# EAGLE library part STM32F091RC (library OTHERTEST)
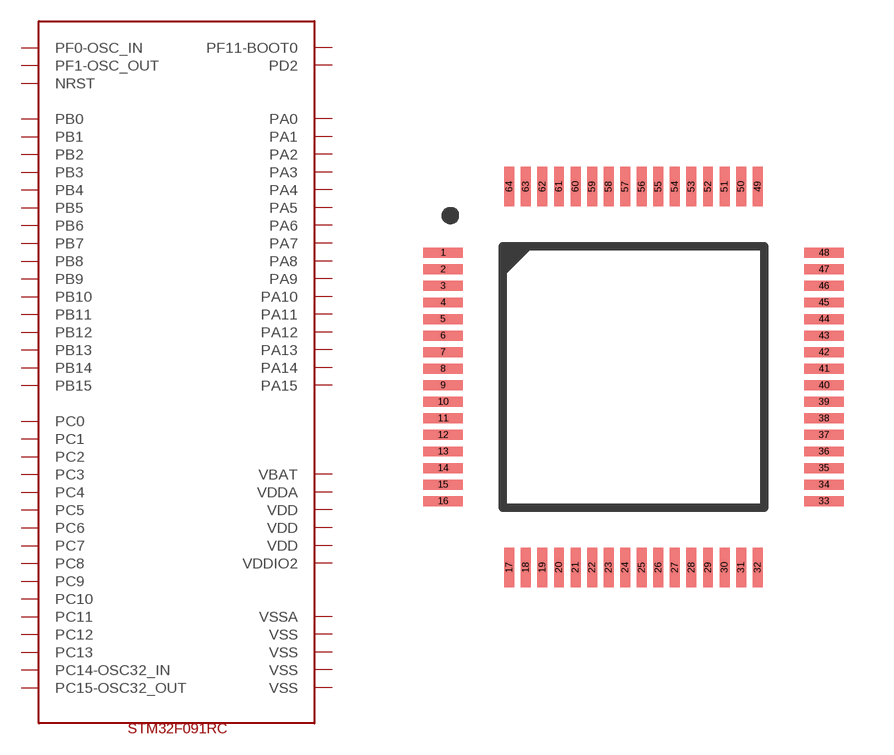
[diagram p0: symbol with the pads of STM32F091; footprint STM32F091]

Designator prefix U1

## STM32F091RC (DATASHEET: http://www.st.com/content/ccc/resource/technical/document/datasheet/95/3c/2e/5b/21/09/45/a6/DM00115237.pdf/files/DM00115237.pdf/jcr:content/translations/en.DM00115237.pdf#%5B%7B%22num%22%3A96%2C%22gen%22%3A0%7D%2C%7B%22name%22%3A%22XYZ%22%7D%2C67%2C755%2Cnull%5D; MANUFACTURER: ST)  [STM32F091]
1  VBAT  nc
2  PC13  nc
3  PC14-OSC32_IN  nc
4  PC15-OSC32_OUT  nc
5  PF0-OSC_IN  nc
6  PF1-OSC_OUT  nc
7  NRST  nc
8  PC0  nc
9  PC1  nc
10  PC2  nc
11  PC3  nc
12  VSSA  nc
13  VDDA  nc
14  PA0  nc
15  PA1  nc
16  PA2  nc
17  PA3  nc
18  VSS  nc
19  VDD  nc
20  PA4  nc
21  PA5  nc
22  PA6  nc
23  PA7  nc
24  PC4  nc
25  PC5  nc
26  PB0  nc
27  PB1  nc
28  PB2  nc
29  PB10  nc
30  PB11  nc
31  VSS  nc
32  VDD  nc
33  PB12  nc
34  PB13  nc
35  PB14  nc
36  PB15  nc
37  PC6  nc
38  PC7  nc
39  PC8  nc
40  PC9  nc
41  PA8  nc
42  PA9  nc
43  PA10  nc
44  PA11  nc
45  PA12  nc
46  PA13  nc
47  VSS  nc
48  VDDIO2  nc
49  PA14  nc
50  PA15  nc
51  PC10  nc
52  PC11  nc
53  PC12  nc
54  PD2  nc
55  PB3  nc
56  PB4  nc
57  PB5  nc
58  PB6  nc
59  PB7  nc
60  PF11-BOOT0  nc
61  PB8  nc
62  PB9  nc
63  VSS  nc
64  VDD  nc

## Footprint STM32F091 (pad centres in mm)
smd 1.2 x 0.3: 1 -5.75,3.75; 2 -5.75,3.25; 3 -5.75,2.75; 4 -5.75,2.25; 5 -5.75,1.75; 6 -5.75,1.25; 7 -5.75,0.75; 8 -5.75,0.25; 9 -5.75,-0.25; 10 -5.75,-0.75; 11 -5.75,-1.25; 12 -5.75,-1.75; 13 -5.75,-2.25; 14 -5.75,-2.75; 15 -5.75,-3.25; 16 -5.75,-3.75; 33 5.75,-3.75; 34 5.75,-3.25; 35 5.75,-2.75; 36 5.75,-2.25; 37 5.75,-1.75; 38 5.75,-1.25; 39 5.75,-0.75; 40 5.75,-0.25; 41 5.75,0.25; 42 5.75,0.75; 43 5.75,1.25; 44 5.75,1.75; 45 5.75,2.25; 46 5.75,2.75; 47 5.75,3.25; 48 5.75,3.75
smd 0.3 x 1.2: 17 -3.75,-5.75; 18 -3.25,-5.75; 19 -2.75,-5.75; 20 -2.25,-5.75; 21 -1.75,-5.75; 22 -1.25,-5.75; 23 -0.75,-5.75; 24 -0.25,-5.75; 25 0.25,-5.75; 26 0.75,-5.75; 27 1.25,-5.75; 28 1.75,-5.75; 29 2.25,-5.75; 30 2.75,-5.75; 31 3.25,-5.75; 32 3.75,-5.75; 49 3.75,5.75; 50 3.25,5.75; 51 2.75,5.75; 52 2.25,5.75; 53 1.75,5.75; 54 1.25,5.75; 55 0.75,5.75; 56 0.25,5.75; 57 -0.25,5.75; 58 -0.75,5.75; 59 -1.25,5.75; 60 -1.75,5.75; 61 -2.25,5.75; 62 -2.75,5.75; 63 -3.25,5.75; 64 -3.75,5.75